# Altium footprint library V_10.PcbLib: 4 footprints
Each footprint in its own frame and in the unit in brackets; x right, y up, seen from the top. Pads: shape width x height; smd on the part's side, far side on the other; paste and mask are expansions set on the pad; w line width, h text height; cw(c..) or ccw(c..) is an arc to the next point about the centre after c.
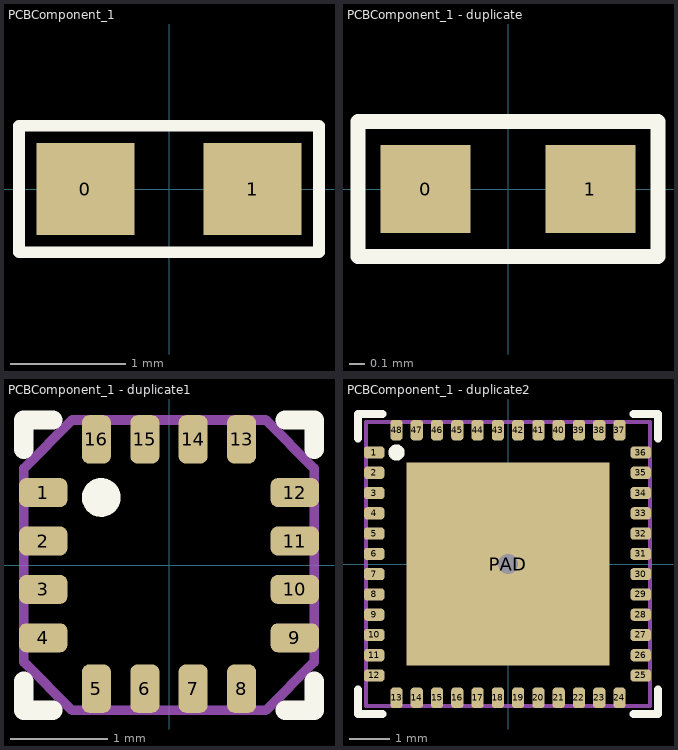
[diagram p0: the footprints below, top view; thin cyan lines are the x and y axes]

## PCBComponent_1 [mm]
pads (2):
  rect 0.85x0.8 smd: 0(-0.725,0) 1(0.725,0)
Top Overlay:
  lines w0.1: -1.3,-0.55 1.3,-0.55 1.3,0.55 -1.3,0.55 -1.3,-0.55

## PCBComponent_1 - duplicate [mm]
pads (2):
  rect 0.6x0.59 smd: 0(-0.55,0) 1(0.55,0)
Top Overlay:
  lines w0.1: -1,-0.45 1,-0.45 1,0.45 -1,0.45 -1,-0.45

## PCBComponent_1 - duplicate1 [mm]
pads (16):
  rrect50% 0.5x0.3 smd: 1(-1.3,0.75) 2(-1.3,0.25) 3(-1.3,-0.25) 4(-1.3,-0.75) 9(1.3,-0.75) 10(1.3,-0.25) 11(1.3,0.25) 12(1.3,0.75)
  rrect50% 0.3x0.5 smd: 5(-0.75,-1.275) 6(-0.25,-1.275) 7(0.25,-1.275) 8(0.75,-1.275) 13(0.75,1.3) 14(0.25,1.3) 15(-0.25,1.3) 16(-0.75,1.3)
Top Overlay:
  circle w0.2: c-0.7,0.7 r0.1
  lines w0.2: -1.5,-1.2 -1.5,-1.5 -1.2,-1.5 ; -1.5,1.2 -1.5,1.5 -1.2,1.5 ; 1.2,-1.5 1.5,-1.5 1.5,-1.2 ; 1.2,1.5 1.5,1.5 1.5,1.2
Mechanical 1:
  lines w0.1: -1.5,-1 -1,-1.5 1,-1.5 1.5,-1 1.5,1 1,1.5 -1,1.5 -1.5,1 -1.5,-1

## PCBComponent_1 - duplicate2 [mm]
pads (49):
  rrect50% 0.5x0.3 smd: 1(-3.3,2.75) 2(-3.3,2.25) 3(-3.3,1.75) 4(-3.3,1.25) 5(-3.3,0.75) 6(-3.3,0.25) 7(-3.3,-0.25) 8(-3.3,-0.75) 9(-3.3,-1.25) 10(-3.3,-1.75) 11(-3.3,-2.25) 12(-3.3,-2.75) 25(3.275,-2.75) 26(3.275,-2.25) 27(3.275,-1.75) 28(3.275,-1.25) 29(3.275,-0.75) 30(3.275,-0.25) 31(3.275,0.25) 32(3.275,0.75) 33(3.275,1.25) 34(3.275,1.75) 35(3.275,2.25) 36(3.275,2.75)
  rrect50% 0.3x0.5 smd: 13(-2.75,-3.3) 14(-2.25,-3.3) 15(-1.75,-3.3) 16(-1.25,-3.3) 17(-0.75,-3.3) 18(-0.25,-3.3) 19(0.25,-3.3) 20(0.75,-3.3) 21(1.25,-3.3) 22(1.75,-3.3) 23(2.25,-3.3) 24(2.75,-3.3) 37(2.75,3.3) 38(2.25,3.3) 39(1.75,3.3) 40(1.25,3.3) 41(0.75,3.3) 42(0.25,3.3) 43(-0.25,3.3) 44(-0.75,3.3) 45(-1.25,3.3) 46(-1.75,3.3) 47(-2.25,3.3) 48(-2.75,3.3)
  rect 5x5 hole 0.5: PAD(0,0)
Top Overlay:
  circle w0.2: c-2.75,2.75 r0.1
  lines w0.2: -3.7,-3.1 -3.7,-3.7 -3.1,-3.7 ; -3.7,3.1 -3.7,3.7 -3.1,3.7 ; 3.1,-3.7 3.7,-3.7 3.7,-3.1 ; 3.1,3.7 3.7,3.7 3.7,3.1
Mechanical 1:
  lines w0.1: -3.5,-3.5 -3.5,3.5 3.5,3.5 3.5,-3.5 -3.5,-3.5